# EAGLE library part LM358DR (library IC)
IC OPAMP GP 2 CIRCUIT 8SOIC Manufacturer's datasheet <http://www.ti.com/lit/ds/symlink/lm358.pdf>
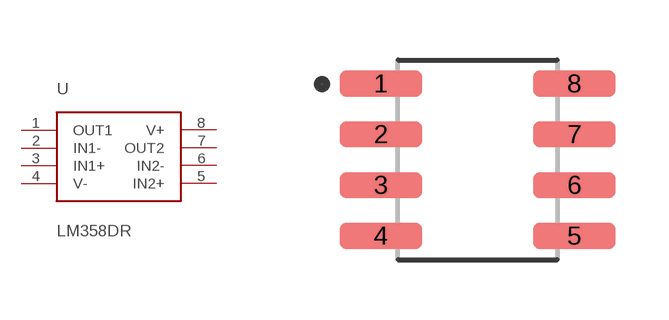
[diagram p21: symbol with the pads of LM358DR; footprint LM358DR]

Designator prefix U

## LM358DR (CREATED_BY: PCBLayout.com; DIGIKEY_PART_NUMBER: 296-1014-1-ND; MANUFACTURER: Texas Instruments; MPN: LM358DR; PACKAGE: 8-SOIC)  [LM358DR]
1  OUT1  out
2  IN1-  in
3  IN1+  in
4  V-  pwr
5  IN2+  in
6  IN2-  in
7  OUT2  out
8  V+  pwr

## Footprint LM358DR (pad centres in mm)
Small Outline IC (SOIC), 1.27 mm pitch; 8 pin, 4.905 mm L X 3.895 mm W X 1.75 mm H body PCB Libraries Packages
smd 2.07 x 0.66: 1 -2.42,1.905; 2 -2.42,0.635; 3 -2.42,-0.635; 4 -2.42,-1.905; 5 2.42,-1.905; 6 2.42,-0.635; 7 2.42,0.635; 8 2.42,1.905